# Altium schematic symbol library blandat.SchLib: 21 symbols
Pins are listed as number, name and electrical type; pins without a type are passive.

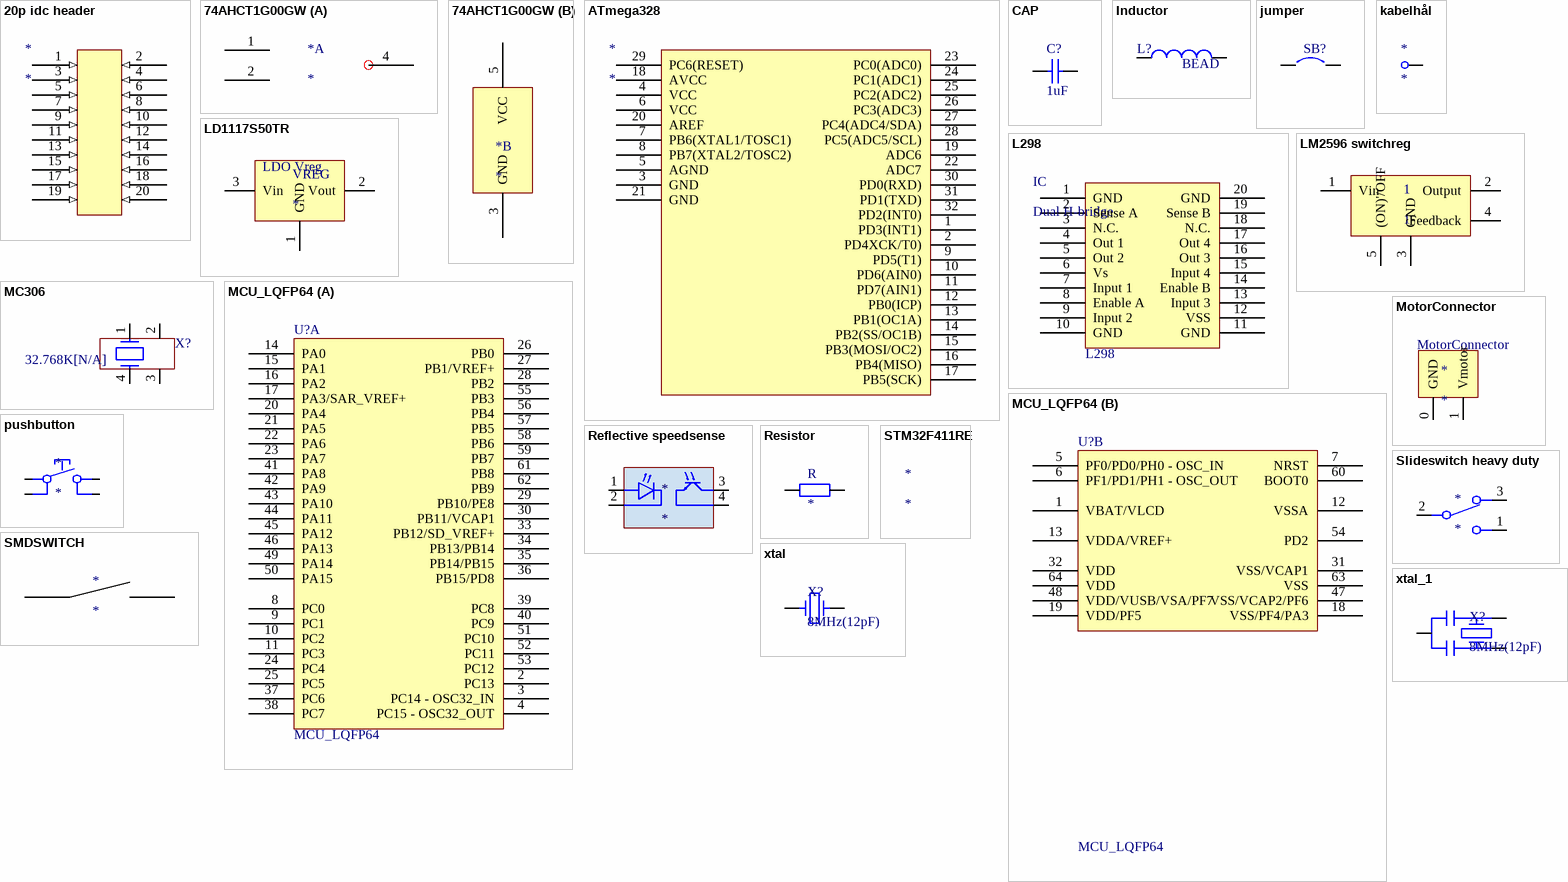
[diagram p0: symbols 20p idc header to xtal_1]

## 20p idc header
designator *
footprint 20 pin header idc
pins: 1 (in), 2 (in), 3 (in), 4 (in), 5 (in), 6 (in), 7 (in), 8 (in), 9 (in), 10 (in), 11 (in), 12 (in), 13 (in), 14 (in), 15 (in), 16 (in), 17 (in), 18 (in), 19 (in), 20 (in)

## 74AHCT1G00GW
designator *
footprint SOT95P275X110-5N (SOT23, 5-Leads, Body 2,90x2,75mm, Pitch 0,95mm, IPC Medium Density)
part A pins: 1, 2, 4
part B pins: 3 GND, 5 VCC

## ATmega328
designator *
footprint TQFP32 (CQFP, 32-Leads, Body 9,00x9,00mm, Pitch 0,80mm, IPC Low Density)
pins: 1 PD3(INT1), 2 PD4XCK/T0), 3 GND, 4 VCC, 5 AGND, 6 VCC, 7 PB6(XTAL1/TOSC1), 8 PB7(XTAL2/TOSC2), 9 PD5(T1), 10 PD6(AIN0), 11 PD7(AIN1), 12 PB0(ICP), 13 PB1(OC1A), 14 PB2(SS/OC1B), 15 PB3(MOSI/OC2), 16 PB4(MISO), 17 PB5(SCK), 18 AVCC, 19 ADC6, 20 AREF, 21 GND, 22 ADC7, 23 PC0(ADC0), 24 PC1(ADC1), 25 PC2(ADC2), 26 PC3(ADC3), 27 PC4(ADC4/SDA), 28 PC5(ADC5/SCL), 29 PC6(RESET), 30 PD0(RXD), 31 PD1(TXD), 32 PD2(INT0)

## CAP
designator C?, comment 1uF
Value: 1µF; Rated voltage: 25V; Tolerance: 10%; Manufacturer: *; Manufacturer P/N: *; Order code Farnell: 1288202RL; Power: *; Technology: X5R; Temperature  Factor: *; Temperature Max: +125°C; Temperature Min: -55°C; STS Code: *
footprint CAP1206 (Chip Capacitor, 2-Leads, Body 3,10x1,60mm, IPC Low Density)
footprint CAP0603
pins: 1, 2

## Inductor
designator L?, comment BEAD
Inductor; Value: 100uH; Published: 8-Jun-2000; Revision: July-2002: Re-released for DXP Platform.; Publisher: Altium Limited
footprint 0603 (Footprint not found)
footprint 0603C
footprint 0603L
pins: 1, 2

## jumper
designator SB?
footprint smd jumper
pins: 1, 2

## kabelhål
designator *
footprint kabelhål USB
pins: 1

## L298
designator IC, comment Dual H-bridge
ComponentLink1Description: Datasheet; ComponentLink1URL: https://www.st.com/resource/en/datasheet/l298.pdf
footprint PowerSO20 (SOP, 20-Leads, Body 15,90x11,00mm, Pitch 1,27mm, IPC Medium Density)
pins: 1 GND, 2 Sense A, 3 N.C., 4 Out 1, 5 Out 2, 6 Vs, 7 Input 1, 8 Enable A, 9 Input 2, 10 GND, 11 GND, 12 VSS, 13 Input 3, 14 Enable B, 15 Input 4, 16 Out 3, 17 Out 4, 18 N.C., 19 Sense B, 20 GND

## LD1117S50TR
designator VREG
5V LDO voltage regulator
footprint SOT230P700X180-4M (SOT223, 4-Leads, Body 6,50x7,00mm (avg), Pitch 2,30mm, IPC Low Density)
pins: 1 GND, 2 Vout (power), 3 Vin
text: LDO Vreg

## LM2596 switchreg
designator 1, comment 1
footprint TO-263-5 (lm2596s)
pins: 1 Vin, 2 Output, 3 GND, 4 Feedback, 5 (ON)'/OFF

## MC306
designator X?, comment 32.768K[N/A]
footprint XTAL_4SM
pins: 1, 2, 3, 4

## MCU_LQFP64
designator U?
footprint LQFP64 (Footprint not found)
footprint LQFP-64
footprint LQFP64 wizard (TSQFP, 64-Leads, Body 10,00x10,00mm, Pitch 0,50mm, IPC Medium Density)
part A pins: 2 PC13, 3 PC14 - OSC32_IN, 4 PC15 - OSC32_OUT, 8 PC0, 9 PC1, 10 PC2, 11 PC3, 14 PA0, 15 PA1, 16 PA2, 17 PA3/SAR_VREF+, 20 PA4, 21 PA5, 22 PA6, 23 PA7, 24 PC4, 25 PC5, 26 PB0, 27 PB1/VREF+, 28 PB2, 29 PB10/PE8, 30 PB11/VCAP1, 33 PB12/SD_VREF+, 34 PB13/PB14, 35 PB14/PB15, 36 PB15/PD8, 37 PC6, 38 PC7, 39 PC8, 40 PC9, 41 PA8, 42 PA9, 43 PA10, 44 PA11, 45 PA12, 46 PA13, 49 PA14, 50 PA15, 51 PC10, 52 PC11, 53 PC12, 55 PB3, 56 PB4, 57 PB5, 58 PB6, 59 PB7, 61 PB8, 62 PB9
part B pins: 1 VBAT/VLCD, 5 PF0/PD0/PH0 - OSC_IN, 6 PF1/PD1/PH1 - OSC_OUT, 7 NRST, 12 VSSA, 13 VDDA/VREF+, 18 VSS/PF4/PA3, 19 VDD/PF5, 31 VSS/VCAP1, 32 VDD, 47 VSS/VCAP2/PF6, 48 VDD/VUSB/VSA/PF7, 54 PD2, 60 BOOT0, 63 VSS, 64 VDD

## MotorConnector
designator *
footprint Model Name (Footprint not found)
pins: 0 GND, 1 Vmotor

## pushbutton
designator *
footprint pushbutton smd
pins: 1, 2, 3, 4

## Reflective speedsense
designator *
footprint 3mm dual led holder
pins: 1 A, 2 K, 3 C, 4 E

## Resistor
designator R
footprint RES1206 (Chip Resistor, 2-Leads, Body 3,10x1,60mm, IPC Low Density)
footprint RES0805
pins: 1, 2

## Slideswitch heavy duty
designator *
footprint SS-12F44-G5
footprint litenswitch (en liten switch:))
pins: 1, 2, 3

## SMDSWITCH
designator *
footprint SMDswitch
pins: 1, 2

## STM32F411RE
designator *

## xtal
designator X?, comment 8MHz(12pF)
Crystal Oscillator
footprint xtal
pins: OSCI, OSCO

## xtal_1
designator X?, comment 8MHz(12pF)
Crystal Oscillator
footprint osc
pins: GND, OSCI, OSCO